# Altium footprint library V2_wearable.PcbLib: 59 footprints (part 4 of 4)
Each footprint in its own frame and in the unit in brackets; x right, y up, seen from the top. Pads: shape width x height; smd on the part's side, far side on the other; paste and mask are expansions set on the pad; w line width, h text height; cw(c..) or ccw(c..) is an arc to the next point about the centre after c.
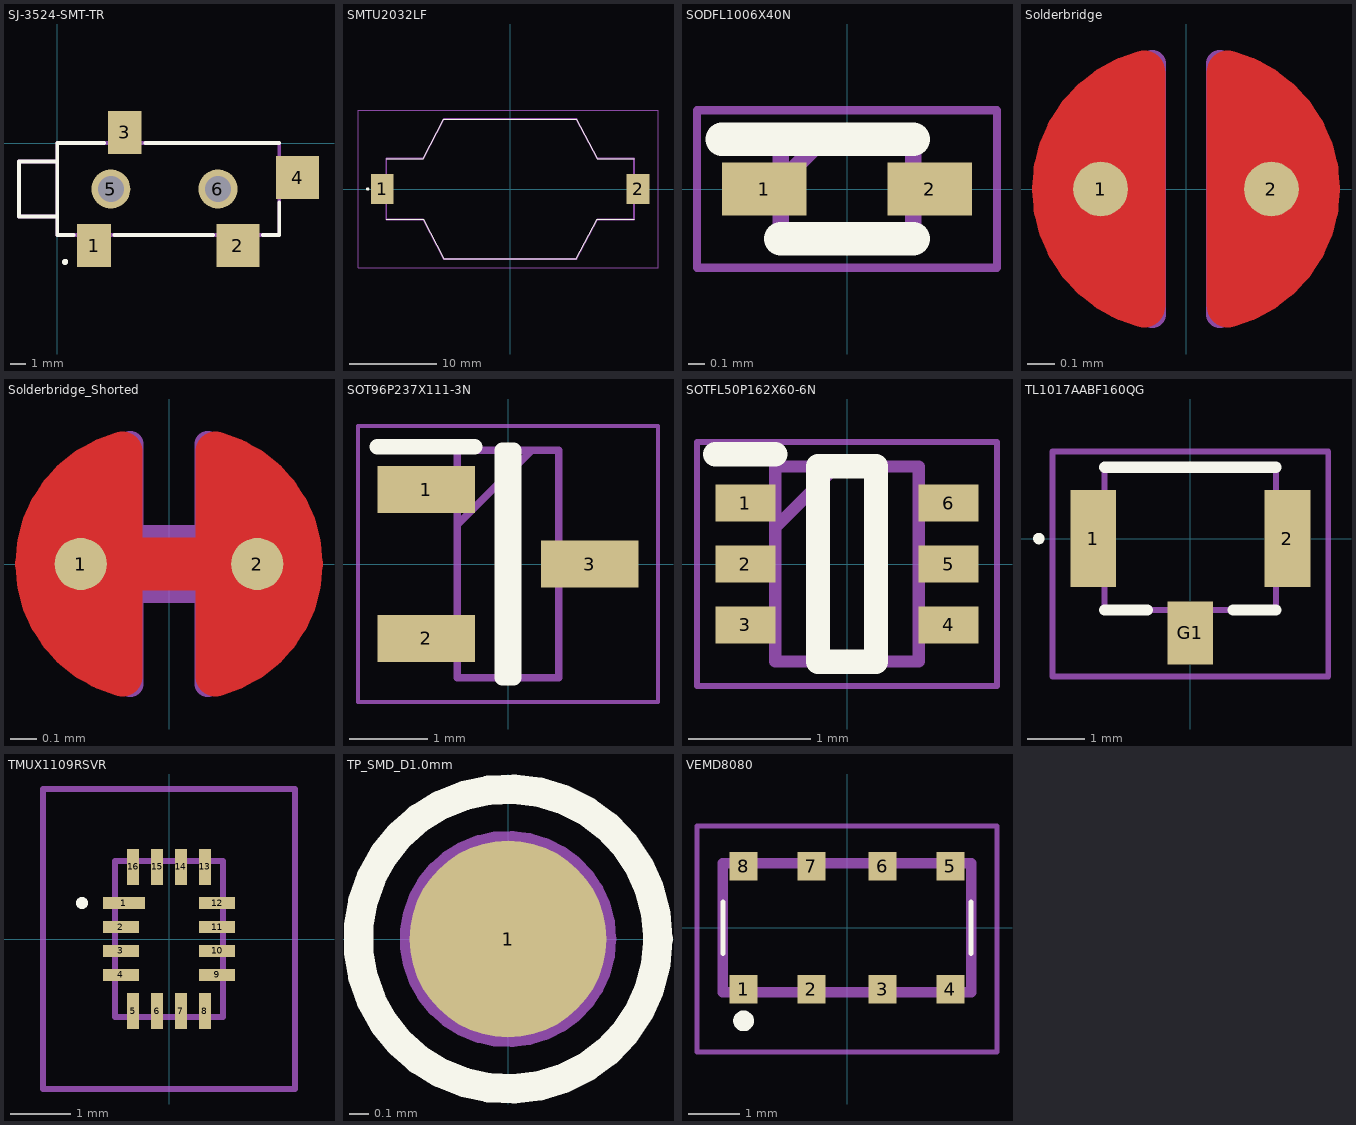
[diagram p3: the footprints below, top view; thin cyan lines are the x and y axes]

## SJ-3524-SMT-TR [mm]
pads (6):
  rect 2.2x2.8 smd: 1(2.4,-6.7) 3(4.4,0.7)
  rect 2.8x2.8 smd: 2(11.8,-6.7) 4(15.7,-2.25)
  round 2.55 hole 1.7: 5(3.5,-3) 6(10.5,-3)
Top Overlay:
  circle w0.254: c0.511,-7.76 r0.072
  lines w0.254: 1.063,-6 0,-6 0,-4.8 ; 3.06,0 0,0 0,-1.2 ; 3.725,-6 10.168,-6 ; 5.75,0 14.5,0 ; 13.439,-6 14.5,-6 14.5,-3.88 ; 0,-4.8 0,-1.2 ; 0,-4.8 -2.5,-4.8 -2.5,-1.2 0,-1.2
Mechanical 13:
  lines w0.254: 0,-4.8 -2.5,-4.8 -2.5,-1.2 0,-1.2 ; 0,-6 0,0 14.5,0 14.5,-6 0,-6
3D body "SJ-3524-SMT-TR.stp": height 5.13, standoff -0.67, extent -2.485,-7.496 16.515,1.504

## SMTU2032LF [mm]
pads (2):
  rect 2.6x3.5 smd: 1(-14.7,0) 2(14.7,0)
Top Overlay:
  lines w0.1: -14.25,-3.5 -10,-3.5 -7.62,-8.05 7.62,-8.05 10,-3.5 14.25,-3.5 ; -14.25,3.5 -10,3.5 -7.62,8.05 7.62,8.05 10,3.5 14.25,3.5
  lines w0.2: -16.4,-0.1 ccw(c-16.4,0) -16.4,0.1 ccw(c-16.4,0) -16.4,-0.1
Mechanical 13:
  lines w0.2: -14.25,-3.5 -14.25,3.5 -10,3.5 -7.62,8.05 7.62,8.05 10,3.5 14.25,3.5 14.25,-3.5 10,-3.5 7.62,-8.05 -7.62,-8.05 -10,-3.5 -14.25,-3.5
Mechanical 15:
  lines w0.1: -17.5,-9.05 17,-9.05 17,9.05 -17.5,9.05 -17.5,-9.05
3D body "SMTU2032-LF.stp": height 5.4, standoff 0, extent -15.9,-8.05 15.9,8.05

## SODFL1006X40N [mm]
pads (2):
  rect 0.51x0.32 smd: 1(-0.5,0) 2(0.5,0)
Top Overlay:
  lines w0.2: -0.755,0.3 0.4,0.3 ; -0.4,-0.3 0.4,-0.3
Mechanical 13:
  lines w0.1: -0.4,0.045 -0.145,0.3 ; -0.4,-0.3 0.4,-0.3 0.4,0.3 -0.4,0.3 -0.4,-0.3
Mechanical 15:
  lines w0.05: -0.905,-0.475 0.905,-0.475 0.905,0.475 -0.905,0.475 -0.905,-0.475
3D body "NSR0620P2T5G.stp": height 0.4, standoff 0, extent -0.5,-0.3 0.5,0.3

## Solderbridge [mm]
pads (2):
  round 0.2 smd paste-10: 1(-0.312,0) 2(0.312,0)
Top Layer:
  region: 0.077,0.432 0.152,0.505 0.271,0.467 0.335,0.424 0.409,0.351 0.462,0.292 0.521,0.193 0.549,0.099 0.544,-0.122 0.518,-0.193 0.434,-0.33 0.351,-0.411 0.259,-0.469 0.157,-0.5 0.107,-0.483 0.077,-0.43
  region: -0.077,-0.432 -0.152,-0.505 -0.271,-0.467 -0.335,-0.424 -0.409,-0.351 -0.462,-0.292 -0.521,-0.193 -0.549,-0.099 -0.544,0.122 -0.518,0.193 -0.434,0.33 -0.351,0.411 -0.259,0.469 -0.157,0.5 -0.107,0.483 -0.077,0.43
  lines w0.152: -0.153,-0.431 cw(c-0.042,0) -0.153,0.431 ; 0.153,-0.431 ccw(c0.042,0) 0.153,0.431
Top Solder:
  circle w0.61: c-0.003,0 r0.279
Mechanical 7:
  lines w0.1: -0.123,-0.459 cw(c-0.042,0) -0.123,0.459 -0.123,-0.459 ; 0.123,-0.459 ccw(c0.042,0) 0.123,0.459 0.123,-0.459
  text ".Designator" at -0.635,0.635 h0.38

## Solderbridge_Shorted [mm]
pads (2):
  round 0.2 smd paste-10: 1(-0.338,0) 2(0.338,0)
Top Layer:
  region: -0.102,-0.432 -0.178,-0.505 -0.296,-0.467 -0.361,-0.424 -0.434,-0.351 -0.488,-0.292 -0.546,-0.193 -0.574,-0.099 -0.569,0.122 -0.544,0.193 -0.46,0.33 -0.376,0.411 -0.284,0.469 -0.183,0.5 -0.132,0.483 -0.102,0.43
  region: 0.102,0.432 0.178,0.505 0.296,0.467 0.361,0.424 0.434,0.351 0.488,0.292 0.546,0.193 0.574,0.099 0.569,-0.122 0.544,-0.193 0.46,-0.33 0.376,-0.411 0.284,-0.469 0.183,-0.5 0.132,-0.483 0.102,-0.43
  lines w0.152: -0.178,-0.431 cw(c-0.068,0) -0.178,0.431 ; 0.178,-0.431 ccw(c0.068,0) 0.178,0.431
  lines w0.203: -0.338,0 0.338,0
Top Solder:
  circle w0.61: c0.028,0 r0.279
  circle w0.61: c-0.028,0 r0.279
Mechanical 7:
  lines w0.1: -0.148,-0.459 cw(c-0.067,0) -0.148,0.459 -0.148,0.1 0.148,0.1 0.148,0.459 cw(c0.067,0) 0.148,-0.459 0.148,-0.1 -0.148,-0.1 -0.148,-0.459
  text ".Designator" at 0.635,-0.152 h0.3

## SOT96P237X111-3N [mm]
pads (3):
  rect 1.25x0.6 smd: 1(-1.05,0.955) 2(-1.05,-0.955) 3(1.05,0)
Top Overlay:
  lines w0.2: -1.675,1.505 -0.425,1.505 ; -0.075,-1.46 -0.075,1.46 0.075,1.46 0.075,-1.46 -0.075,-1.46
Mechanical 13:
  lines w0.1: -0.65,0.505 0.305,1.46 ; -0.65,-1.46 -0.65,1.46 0.65,1.46 0.65,-1.46 -0.65,-1.46
Mechanical 15:
  lines w0.05: -1.925,-1.77 -1.925,1.77 1.925,1.77 1.925,-1.77 -1.925,-1.77
3D body "FDV303N.stp": height 1.11, standoff 0, extent -1.185,-1.46 1.185,1.46

## SOTFL50P162X60-6N [mm]
pads (6):
  rect 0.492x0.3 smd: 1(-0.834,0.5) 2(-0.834,0) 3(-0.834,-0.5) 4(0.834,-0.5) 5(0.834,0) 6(0.834,0.5)
Top Overlay:
  lines w0.2: -1.08,0.9 -0.588,0.9 ; -0.238,-0.8 0.238,-0.8 0.238,0.8 -0.238,0.8 -0.238,-0.8
Mechanical 13:
  lines w0.1: -0.588,0.3 -0.088,0.8 ; -0.588,-0.8 0.588,-0.8 0.588,0.8 -0.588,0.8 -0.588,-0.8
Mechanical 15:
  lines w0.05: -1.23,-1 1.23,-1 1.23,1 -1.23,1 -1.23,-1
3D body "DMC2400UV.stp": height 0.6, standoff 0, extent -0.813,-0.8 0.813,0.8

## TL1017AABF160QG [mm]
pads (3):
  rect 0.8x1.7 smd: 1(-1.7,0) 2(1.7,0)
  rect 0.8x1.1 smd: G1(0,-1.65)
Top Overlay:
  lines w0.1: -2.7,0 cw(c-2.65,0) -2.6,0 cw(c-2.65,0) -2.7,0
  lines w0.2: -1.5,-1.25 -0.75,-1.25 ; -1.5,1.25 1.5,1.25 ; 0.75,-1.25 1.5,-1.25
Mechanical 13:
  lines w0.1: -1.5,-1.25 -1.5,1.25 1.5,1.25 1.5,-1.25 -1.5,-1.25
Mechanical 15:
  lines w0.1: -2.413,-2.413 -2.413,1.524 2.413,1.524 2.413,-2.413 -2.413,-2.413
3D body "TL1017AABF160QG.stp": height 1.5, standoff 0, extent -2,-1.945 2,1.205

## TMUX1109RSVR [mm]
pads (16):
  rect 0.7x0.2 smd: 1(-0.75,0.6)
  rect 0.6x0.2 smd: 2(-0.8,0.2) 3(-0.8,-0.2) 4(-0.8,-0.6) 9(0.8,-0.6) 10(0.8,-0.2) 11(0.8,0.2) 12(0.8,0.6)
  rect 0.2x0.6 smd: 5(-0.6,-1.2) 6(-0.2,-1.2) 7(0.2,-1.2) 8(0.6,-1.2) 13(0.6,1.2) 14(0.2,1.2) 15(-0.2,1.2) 16(-0.6,1.2)
Top Overlay:
  lines w0.1: -1.5,0.6 ccw(c-1.45,0.6) -1.4,0.6 ccw(c-1.45,0.6) -1.5,0.6
Mechanical 13:
  lines w0.1: -0.9,-1.3 -0.9,1.3 0.9,1.3 0.9,-1.3 -0.9,-1.3
Mechanical 15:
  lines w0.1: -2.1,-2.5 -2.1,2.5 2.1,2.5 2.1,-2.5 -2.1,-2.5
3D body "TMUX1109RSVR.stp": height 0.65, standoff 0, extent -0.9,-1.3 0.9,1.3

## TP_SMD_D1.0mm [mm]
pads (1):
  round 1 smd paste-5: 1(0,0)
Top Overlay:
  circle w0.15: c0,0 r0.762
Mechanical 7:
  circle w0.1: c0,0 r0.5
  circle w0.1: c0,0 r0.762
  text ".Designator" at -0.633,0.918 h0.38

## VEMD8080 [mm]
pads (8):
  rect 0.54x0.55 smd: 1(-2,-1.19) 2(-0.69,-1.19) 3(0.69,-1.19) 4(2,-1.19) 5(2,1.19) 6(0.69,1.19) 7(-0.69,1.19) 8(-2,1.19)
Top Overlay:
  lines w0.1: -2.4,-0.5 -2.4,0.5 ; 2.4,-0.5 2.4,0.5
  lines w0.2: -2.1,-1.8 ccw(c-2,-1.8) -1.9,-1.8 ccw(c-2,-1.8) -2.1,-1.8
Mechanical 13:
  lines w0.2: -2.4,-1.25 -2.4,1.25 2.4,1.25 2.4,-1.25 -2.4,-1.25
Mechanical 15:
  lines w0.1: -2.9,-2.4 -2.9,1.965 2.9,1.965 2.9,-2.4 -2.9,-2.4
3D body "VEMD8080.stp": height 0.48, standoff 0, extent -2.4,-1.23 2.4,1.27